# Altium schematic symbol library ADF4159CCPZ.SchLib: 1 symbol
Pins are listed as number, name and electrical type; pins without a type are passive.

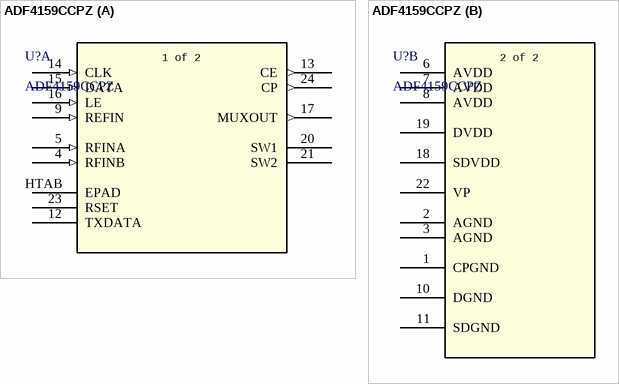
[diagram p0: symbol ADF4159CCPZ]

## ADF4159CCPZ
designator U?
Direct Modulation/Fast Waveform Generating, 13 GHz, Fractional-N Frequency Synthesizer; Manufacturer_Name: Analog Devices Inc; Copyright: Copyright (C) 2025 Ultra Librarian. All rights reserved.; Manufacturer_Part_Number: ADF4159CCPZ; RefDes: RefDes; Type: Type
footprint CP_24_10_ADI
part A pins: 4 RFINB (in), 5 RFINA (in), 9 REFIN (in), 12 TXDATA, 13 CE (out), 14 CLK (in), 15 DATA (in), 16 LE (in), 17 MUXOUT (out), 20 SW1, 21 SW2, 23 RSET, 24 CP (out), HTAB EPAD
part B pins: 1 CPGND (power), 2 AGND (power), 3 AGND (power), 6 AVDD (power), 7 AVDD (power), 8 AVDD (power), 10 DGND (power), 11 SDGND (power), 18 SDVDD (power), 19 DVDD (power), 22 VP (power)
part A text: 1 of 2
part B text: 2 of 2